# EAGLE library part LMZ21700SILT (library LMZ21700SILT)
3V to 17V, 0.65A Step-Down DC/DC Power Module in 3.5mm 3.5mm Package Source: Datasheet <http://uk.rs-online.com/web/p/products/9009750P>
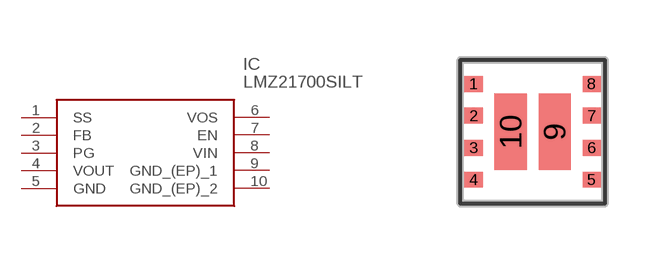
[diagram p0: symbol with the pads of SIL0008E; footprint SIL0008E]

Designator prefix IC

## LMZ21700SILT (Description: 3V to 17V, 0.65A Step-Down DC/DC Power Module in 3.5mm 3.5mm Package; Height: mm; Manufacturer_Name: Texas Instruments; Manufacturer_Part_Number: LMZ21700SILT; RS_Part_Number: 9009750P; RS_Price-Stock: http://uk.rs-online.com/web/p/products/9009750P)  [SIL0008E]
1  SS
2  FB
3  PG
4  VOUT  out
5  GND  pwr
6  VOS
7  EN
8  VIN  in
9  GND_(EP)_1  pwr
10  GND_(EP)_2  pwr

## Footprint SIL0008E (pad centres in mm)
SIL0008E
smd 0.45 x 0.4: 1 -1.475,1.2; 2 -1.475,0.4; 3 -1.475,-0.4; 4 -1.475,-1.2; 5 1.475,-1.2; 6 1.475,-0.4; 7 1.475,0.4; 8 1.475,1.2
smd 0.8 x 1.9: 9 0.55,0; 10 -0.55,0